# EAGLE library part MINI_SENSOR_MOUNT (library stepOSP)
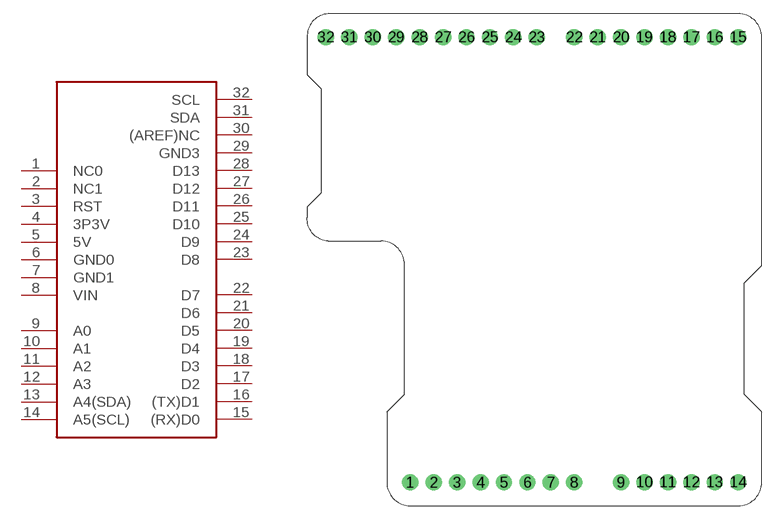
[diagram p31: symbol with the pads of MINI_SENSOR_MOUNT; footprint MINI_SENSOR_MOUNT]

Designator prefix -

## MINI_SENSOR_MOUNT  [MINI_SENSOR_MOUNT]
1  NC0
2  NC1
3  RST
4  3P3V
5  5V
6  GND0
7  GND1
8  VIN
9  A0
10  A1
11  A2
12  A3
13  A4(SDA)
14  A5(SCL)
15  (RX)D0
16  (TX)D1
17  D2
18  D3
19  D4
20  D5
21  D6
22  D7
23  D8
24  D9
25  D10
26  D11
27  D12
28  D13
29  GND3
30  (AREF)NC
31  SDA
32  SCL

## Footprint MINI_SENSOR_MOUNT (pad centres in mm)
drill 0.8 pad 1.778: 1 27.94,2.54; 2 30.48,2.54; 3 33.02,2.54; 4 35.56,2.54; 5 38.1,2.54; 6 40.64,2.54; 7 43.18,2.54; 8 45.72,2.54; 9 50.8,2.54; 10 53.34,2.54; 11 55.88,2.54; 12 58.42,2.54; 13 60.96,2.54; 14 63.5,2.54; 15 63.5,50.8; 16 60.96,50.8; 17 58.42,50.8; 18 55.88,50.8; 19 53.34,50.8; 20 50.8,50.8; 21 48.26,50.8; 22 45.72,50.8; 23 41.656,50.8; 24 39.116,50.8; 25 36.576,50.8; 26 34.036,50.8; 27 31.496,50.8; 28 28.956,50.8; 29 26.416,50.8; 30 23.876,50.8; 31 21.336,50.8; 32 18.796,50.8